# EAGLE library part OSRAM_OSLON (library 2000dB)
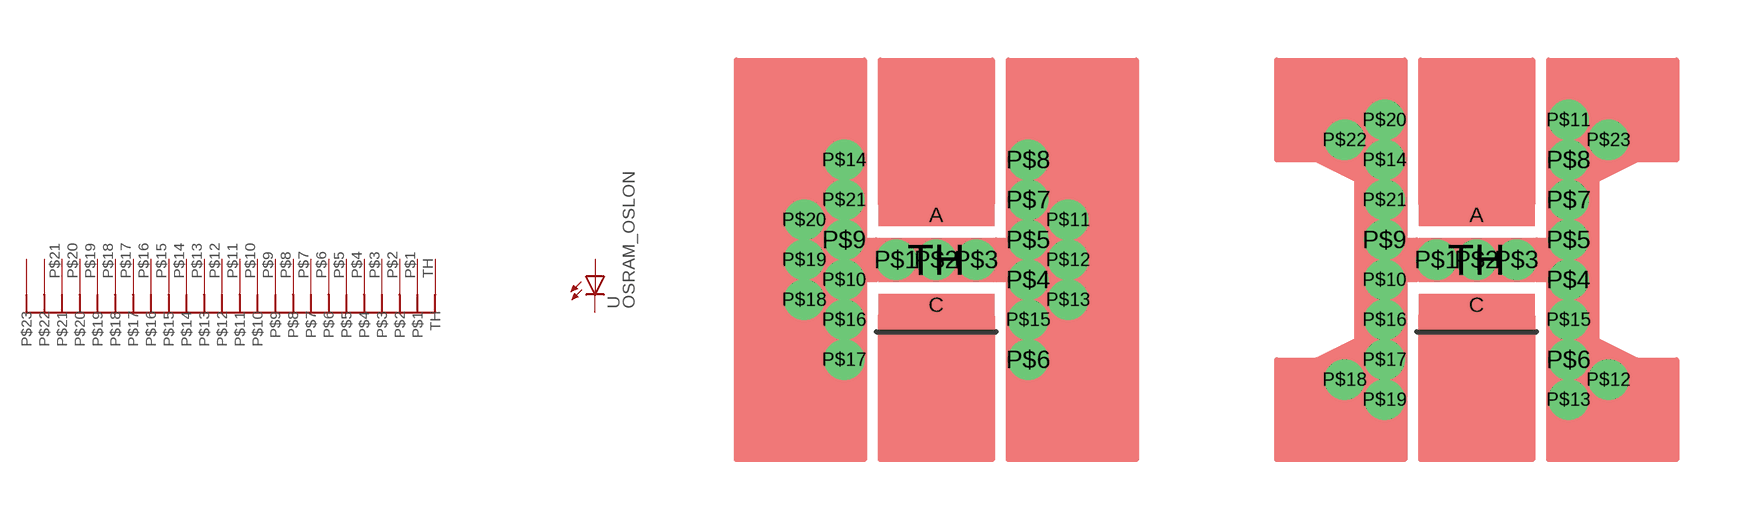
[diagram p4: symbol with the pads of OSRAM_OSLON; footprints OSRAM_OSLON, OSRAM_OSLON_V2]

Designator prefix -

## OSRAM_OSLON1  [OSRAM_OSLON]
A  A  pas
C  C  pas
P$1  P$1
P$2  P$2
P$3  P$3
P$4  P$4
P$5  P$5
P$6  P$6
P$7  P$7
P$8  P$8
P$9  P$9
P$10  P$10
P$11  P$11
P$12  P$12
P$13  P$13
P$14  P$14
P$15  P$15
P$16  P$16
P$17  P$17
P$18  P$18
P$19  P$19
P$20  P$20
P$21  P$21
TH  TH

## OSRAM_OSLON  [OSRAM_OSLON_V2]
A  A  pas
C  C  pas
P$1  P$1
P$2  P$2
P$3  P$3
P$4  P$4
P$5  P$5
P$6  P$6
P$7  P$7
P$8  P$8
P$9  P$9
P$10  P$10
P$11  P$11
P$12  P$12
P$13  P$13
P$14  P$14
P$15  P$15
P$16  P$16
P$17  P$17
P$18  P$18
P$19  P$19
P$20  P$20
P$21  P$21
P$22  P$22
P$23  P$23
TH  TH

## Footprint OSRAM_OSLON (pad centres in mm)
smd 2.9 x 0.55: A 0,1.125; C 0,-1.125
drill 0.5 pad 0.8 round: P$1 -1,0; P$2 0,0; P$3 1,0; P$4 2.3,-0.5; P$5 2.3,0.5; P$6 2.3,-2.5; P$7 2.3,1.5; P$8 2.3,2.5; P$9 -2.3,0.5; P$10 -2.3,-0.5; P$11 3.3,1; P$12 3.3,0; P$13 3.3,-1; P$14 -2.3,2.5; P$15 2.3,-1.5; P$16 -2.3,-1.5; P$17 -2.3,-2.5; P$18 -3.3,-1; P$19 -3.3,0; P$20 -3.3,1; P$21 -2.3,1.5
smd 2.9 x 1.1: TH 0,0

## Footprint OSRAM_OSLON_V2 (pad centres in mm)
smd 2.9 x 0.55: A 0,1.125; C 0,-1.125
drill 0.5 pad 0.8 round: P$1 -1,0; P$2 0,0; P$3 1,0; P$4 2.3,-0.5; P$5 2.3,0.5; P$6 2.3,-2.5; P$7 2.3,1.5; P$8 2.3,2.5; P$9 -2.3,0.5; P$10 -2.3,-0.5; P$11 2.3,3.5; P$12 3.3,-3; P$13 2.3,-3.5; P$14 -2.3,2.5; P$15 2.3,-1.5; P$16 -2.3,-1.5; P$17 -2.3,-2.5; P$18 -3.3,-3; P$19 -2.3,-3.5; P$20 -2.3,3.5; P$21 -2.3,1.5; P$22 -3.3,3; P$23 3.3,3
smd 2.9 x 1.1: TH 0,0